# Altium integrated library Linear Technology Comparators.IntLib: 630 symbols (part 15 of 24)
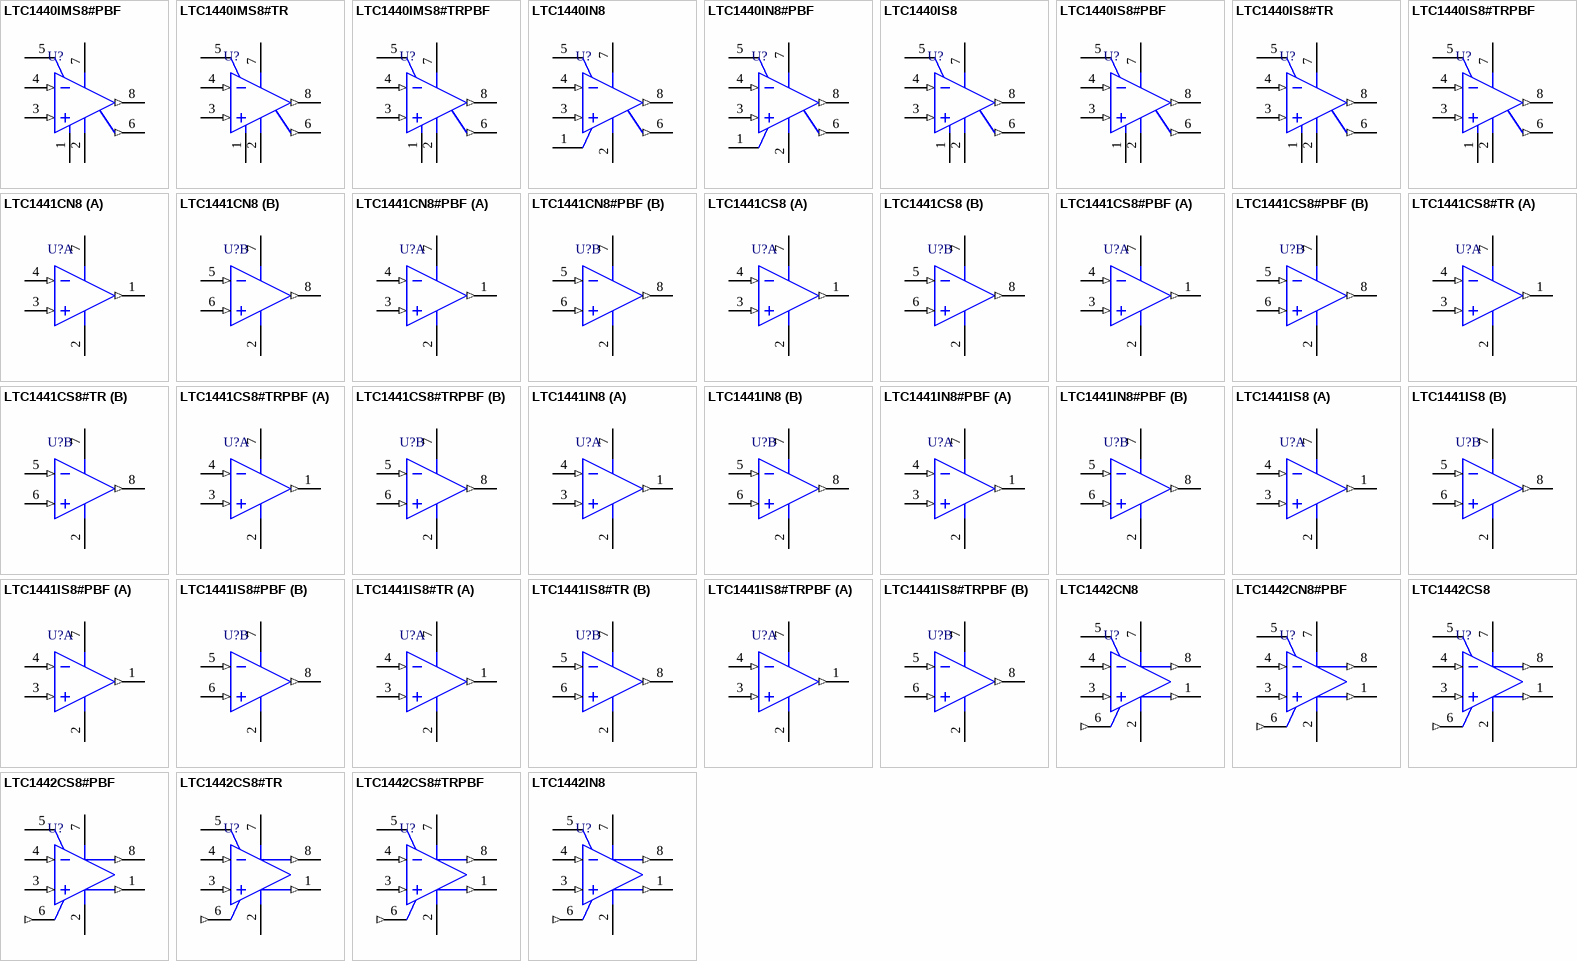
[diagram p38: symbols LTC1440IMS8#PBF to LTC1442IN8]

## LTC1441CS8
designator U?
Ultralow Power Comparator with Reference, 2 Channels, 2 to 11 V, 0 to +70 degC, 8-pin SOP (S8); Generic Part Number: LTC1441; Manufacturer: Linear Technology; PartNumber: LTC1441CS8; Channels (#): 2; Prop Delay (us): 8; Supply Current (uA) Guaranteed: 5.7; Supply Current (uA) Typical: 3.5; Supply Voltage Range: 2 to 11 V; Vos (mV) Guaranteed: 10; Vos (mV) Typical: 3; Vs Max (V): 11; DatasheetVersion: Rev D; PackageReference: S8; PackageDescription: 8-Pin Plastic Small Outline (Narrow .150 Inch), Body 4.9 x 3.9 mm, Pitch 1.27 mm; Supplier 1: Digi-Key; Supplier Part Number 1: LTC1441CS8-ND; Features: Comparator; RoHS: N; Vs Min (V): 2; Mounting Technology: Surface Mount; ComponentLink1Description: Manufacturer URL; ComponentLink1URL: http://www.linear.com/; ComponentLink2Description: Datasheet; ComponentLink2URL: http://cds.linear.com/docs/en/datasheet/144012fd.pdf; ComponentLink3Description: Package Specification; ComponentLink3URL: http://cds.linear.com/docs/en/packaging/05081610_G_SO8.pdf
footprint LT-S8_N (SOP, 8-Leads, Body 4.9x3.9mm, Pitch 1.27mm, IPC Medium Density)
footprint LT-S8_L (SOP, 8-Leads, Body 4.9x3.9mm, Pitch 1.27mm, IPC High Density)
footprint LT-S8_M (SOP, 8-Leads, Body 4.9x3.9mm, Pitch 1.27mm, IPC Low Density)
pins on every part: 2 V- (power), 7 V+ (power)
part A pins: 1 OUTA (out), 3 INA+ (in), 4 INA- (in)
part B pins: 5 INB- (in), 6 INB+ (in), 8 OUTB (out)

## LTC1441CS8#PBF
designator U?
Ultralow Power Comparator with Reference, 2 Channels, 2 to 11 V, 0 to +70 degC, 8-pin SOP (S8); Generic Part Number: LTC1441; Manufacturer: Linear Technology; PartNumber: LTC1441CS8#PBF; Channels (#): 2; Prop Delay (us): 8; Supply Current (uA) Guaranteed: 5.7; Supply Current (uA) Typical: 3.5; Supply Voltage Range: 2 to 11 V; Vos (mV) Guaranteed: 10; Vos (mV) Typical: 3; Vs Max (V): 11; DatasheetVersion: Rev D; PackageReference: S8; PackageDescription: 8-Pin Plastic Small Outline (Narrow .150 Inch), Body 4.9 x 3.9 mm, Pitch 1.27 mm; Supplier 1: Digi-Key; Supplier Part Number 1: LTC1441CS8#PBF-ND; Supplier 2: Newark; Supplier Part Number 2: 56M1207; Features: Comparator; RoHS: Y; Vs Min (V): 2; Mounting Technology: Surface Mount; ComponentLink1Description: Manufacturer URL; ComponentLink1URL: http://www.linear.com/; ComponentLink2Description: Datasheet; ComponentLink2URL: http://cds.linear.com/docs/en/datasheet/144012fd.pdf; ComponentLink3Description: Package Specification; ComponentLink3URL: http://cds.linear.com/docs/en/packaging/05081610_G_SO8.pdf
footprint LT-S8_N (SOP, 8-Leads, Body 4.9x3.9mm, Pitch 1.27mm, IPC Medium Density)
footprint LT-S8_L (SOP, 8-Leads, Body 4.9x3.9mm, Pitch 1.27mm, IPC High Density)
footprint LT-S8_M (SOP, 8-Leads, Body 4.9x3.9mm, Pitch 1.27mm, IPC Low Density)
pins on every part: 2 V- (power), 7 V+ (power)
part A pins: 1 OUTA (out), 3 INA+ (in), 4 INA- (in)
part B pins: 5 INB- (in), 6 INB+ (in), 8 OUTB (out)

## LTC1441CS8#TR
designator U?
Ultralow Power Comparator with Reference, 2 Channels, 2 to 11 V, 0 to +70 degC, 8-pin SOP (S8), Tape and Reel; Generic Part Number: LTC1441; Manufacturer: Linear Technology; PartNumber: LTC1441CS8#TR; Channels (#): 2; Prop Delay (us): 8; Supply Current (uA) Guaranteed: 5.7; Supply Current (uA) Typical: 3.5; Supply Voltage Range: 2 to 11 V; Vos (mV) Guaranteed: 10; Vos (mV) Typical: 3; Vs Max (V): 11; DatasheetVersion: Rev D; PackageReference: S8; PackageDescription: 8-Pin Plastic Small Outline (Narrow .150 Inch), Body 4.9 x 3.9 mm, Pitch 1.27 mm; Supplier 1: Digi-Key; Supplier Part Number 1: LTC1441CS8#TR-ND; Features: Comparator; RoHS: N; Vs Min (V): 2; Mounting Technology: Surface Mount; ComponentLink1Description: Manufacturer URL; ComponentLink1URL: http://www.linear.com/; ComponentLink2Description: Datasheet; ComponentLink2URL: http://cds.linear.com/docs/en/datasheet/144012fd.pdf; ComponentLink3Description: Package Specification; ComponentLink3URL: http://cds.linear.com/docs/en/packaging/05081610_G_SO8.pdf
footprint LT-S8_N (SOP, 8-Leads, Body 4.9x3.9mm, Pitch 1.27mm, IPC Medium Density)
footprint LT-S8_L (SOP, 8-Leads, Body 4.9x3.9mm, Pitch 1.27mm, IPC High Density)
footprint LT-S8_M (SOP, 8-Leads, Body 4.9x3.9mm, Pitch 1.27mm, IPC Low Density)
pins on every part: 2 V- (power), 7 V+ (power)
part A pins: 1 OUTA (out), 3 INA+ (in), 4 INA- (in)
part B pins: 5 INB- (in), 6 INB+ (in), 8 OUTB (out)

## LTC1441CS8#TRPBF
designator U?
Ultralow Power Comparator with Reference, 2 Channels, 2 to 11 V, 0 to +70 degC, 8-pin SOP (S8), Tape and Reel; Generic Part Number: LTC1441; Manufacturer: Linear Technology; PartNumber: LTC1441CS8#TRPBF; Channels (#): 2; Prop Delay (us): 8; Supply Current (uA) Guaranteed: 5.7; Supply Current (uA) Typical: 3.5; Supply Voltage Range: 2 to 11 V; Vos (mV) Guaranteed: 10; Vos (mV) Typical: 3; Vs Max (V): 11; DatasheetVersion: Rev D; PackageReference: S8; PackageDescription: 8-Pin Plastic Small Outline (Narrow .150 Inch), Body 4.9 x 3.9 mm, Pitch 1.27 mm; Supplier 1: Digi-Key; Supplier Part Number 1: LTC1441CS8#TRPBF-ND; Features: Comparator; RoHS: Y; Vs Min (V): 2; Mounting Technology: Surface Mount; ComponentLink1Description: Manufacturer URL; ComponentLink1URL: http://www.linear.com/; ComponentLink2Description: Datasheet; ComponentLink2URL: http://cds.linear.com/docs/en/datasheet/144012fd.pdf; ComponentLink3Description: Package Specification; ComponentLink3URL: http://cds.linear.com/docs/en/packaging/05081610_G_SO8.pdf
footprint LT-S8_N (SOP, 8-Leads, Body 4.9x3.9mm, Pitch 1.27mm, IPC Medium Density)
footprint LT-S8_L (SOP, 8-Leads, Body 4.9x3.9mm, Pitch 1.27mm, IPC High Density)
footprint LT-S8_M (SOP, 8-Leads, Body 4.9x3.9mm, Pitch 1.27mm, IPC Low Density)
pins on every part: 2 V- (power), 7 V+ (power)
part A pins: 1 OUTA (out), 3 INA+ (in), 4 INA- (in)
part B pins: 5 INB- (in), 6 INB+ (in), 8 OUTB (out)

## LTC1441IN8
designator U?
Ultralow Power Comparator with Reference, 2 Channels, 2 to 11 V, -40 to +85 degC, 8-pin PDIP (N8); Generic Part Number: LTC1441; Manufacturer: Linear Technology; PartNumber: LTC1441IN8; Channels (#): 2; Prop Delay (us): 8; Supply Current (uA) Typical: 5.7; Supply Voltage Range: 2 to 11 V; Vos (mV) Guaranteed: 10; Vos (mV) Typical: 3; Vs Max (V): 11; DatasheetVersion: Rev D; PackageReference: N8; PackageDescription: 8-Pin PDIP, Row Spacing 7.62, Pitch 2.54 mm; Supplier 1: Digi-Key; Supplier Part Number 1: LTC1441IN8-ND; Features: Comparator; RoHS: N; Vs Min (V): 2; Mounting Technology: Through Hole; ComponentLink1Description: Manufacturer URL; ComponentLink1URL: http://www.linear.com/; ComponentLink2Description: Datasheet; ComponentLink2URL: http://cds.linear.com/docs/en/datasheet/144012fd.pdf; ComponentLink3Description: Package Specification; ComponentLink3URL: http://cds.linear.com/docs/en/packaging/05081510_I_N8.pdf
footprint LT-N8 (DIP, 8-Leads, Body 10.16x6.477mm, Pitch 2.54mm)
pins on every part: 2 V- (power), 7 V+ (power)
part A pins: 1 OUTA (out), 3 INA+ (in), 4 INA- (in)
part B pins: 5 INB- (in), 6 INB+ (in), 8 OUTB (out)

## LTC1441IN8#PBF
designator U?
Ultralow Power Comparator with Reference, 2 Channels, 2 to 11 V, -40 to +85 degC, 8-pin PDIP (N8); Generic Part Number: LTC1441; Manufacturer: Linear Technology; PartNumber: LTC1441IN8#PBF; Channels (#): 2; Prop Delay (us): 8; Supply Current (uA) Typical: 5.7; Supply Voltage Range: 2 to 11 V; Vos (mV) Guaranteed: 10; Vos (mV) Typical: 3; Vs Max (V): 11; DatasheetVersion: Rev D; PackageReference: N8; PackageDescription: 8-Pin PDIP, Row Spacing 7.62, Pitch 2.54 mm; Supplier 1: Digi-Key; Supplier Part Number 1: LTC1441IN8#PBF-ND; Features: Comparator; RoHS: Y; Vs Min (V): 2; Mounting Technology: Through Hole; ComponentLink1Description: Manufacturer URL; ComponentLink1URL: http://www.linear.com/; ComponentLink2Description: Datasheet; ComponentLink2URL: http://cds.linear.com/docs/en/datasheet/144012fd.pdf; ComponentLink3Description: Package Specification; ComponentLink3URL: http://cds.linear.com/docs/en/packaging/05081510_I_N8.pdf
footprint LT-N8 (DIP, 8-Leads, Body 10.16x6.477mm, Pitch 2.54mm)
pins on every part: 2 V- (power), 7 V+ (power)
part A pins: 1 OUTA (out), 3 INA+ (in), 4 INA- (in)
part B pins: 5 INB- (in), 6 INB+ (in), 8 OUTB (out)

## LTC1441IS8
designator U?
Ultralow Power Comparator with Reference, 2 Channels, 2 to 11 V, -40 to +85 degC, 8-pin SOP (S8); Generic Part Number: LTC1441; Manufacturer: Linear Technology; PartNumber: LTC1441IS8; Channels (#): 2; Prop Delay (us): 8; Supply Current (uA) Guaranteed: 5.7; Supply Current (uA) Typical: 3.5; Supply Voltage Range: 2 to 11 V; Vos (mV) Guaranteed: 10; Vos (mV) Typical: 3; Vs Max (V): 11; DatasheetVersion: Rev D; PackageReference: S8; PackageDescription: 8-Pin Plastic Small Outline (Narrow .150 Inch), Body 4.9 x 3.9 mm, Pitch 1.27 mm; Supplier 1: Digi-Key; Supplier Part Number 1: LTC1441IS8-ND; Features: Comparator; RoHS: N; Vs Min (V): 2; Mounting Technology: Surface Mount; ComponentLink1Description: Manufacturer URL; ComponentLink1URL: http://www.linear.com/; ComponentLink2Description: Datasheet; ComponentLink2URL: http://cds.linear.com/docs/en/datasheet/144012fd.pdf; ComponentLink3Description: Package Specification; ComponentLink3URL: http://cds.linear.com/docs/en/packaging/05081610_G_SO8.pdf
footprint LT-S8_N (SOP, 8-Leads, Body 4.9x3.9mm, Pitch 1.27mm, IPC Medium Density)
footprint LT-S8_L (SOP, 8-Leads, Body 4.9x3.9mm, Pitch 1.27mm, IPC High Density)
footprint LT-S8_M (SOP, 8-Leads, Body 4.9x3.9mm, Pitch 1.27mm, IPC Low Density)
pins on every part: 2 V- (power), 7 V+ (power)
part A pins: 1 OUTA (out), 3 INA+ (in), 4 INA- (in)
part B pins: 5 INB- (in), 6 INB+ (in), 8 OUTB (out)

## LTC1441IS8#PBF
designator U?
Ultralow Power Comparator with Reference, 2 Channels, 2 to 11 V, -40 to +85 degC, 8-pin SOP (S8); Generic Part Number: LTC1441; Manufacturer: Linear Technology; PartNumber: LTC1441IS8#PBF; Channels (#): 2; Prop Delay (us): 8; Supply Current (uA) Guaranteed: 5.7; Supply Current (uA) Typical: 3.5; Supply Voltage Range: 2 to 11 V; Vos (mV) Guaranteed: 10; Vos (mV) Typical: 3; Vs Max (V): 11; DatasheetVersion: Rev D; PackageReference: S8; PackageDescription: 8-Pin Plastic Small Outline (Narrow .150 Inch), Body 4.9 x 3.9 mm, Pitch 1.27 mm; Supplier 1: Digi-Key; Supplier Part Number 1: LTC1441IS8#PBF-ND; Features: Comparator; RoHS: Y; Vs Min (V): 2; Mounting Technology: Surface Mount; ComponentLink1Description: Manufacturer URL; ComponentLink1URL: http://www.linear.com/; ComponentLink2Description: Datasheet; ComponentLink2URL: http://cds.linear.com/docs/en/datasheet/144012fd.pdf; ComponentLink3Description: Package Specification; ComponentLink3URL: http://cds.linear.com/docs/en/packaging/05081610_G_SO8.pdf
footprint LT-S8_N (SOP, 8-Leads, Body 4.9x3.9mm, Pitch 1.27mm, IPC Medium Density)
footprint LT-S8_L (SOP, 8-Leads, Body 4.9x3.9mm, Pitch 1.27mm, IPC High Density)
footprint LT-S8_M (SOP, 8-Leads, Body 4.9x3.9mm, Pitch 1.27mm, IPC Low Density)
pins on every part: 2 V- (power), 7 V+ (power)
part A pins: 1 OUTA (out), 3 INA+ (in), 4 INA- (in)
part B pins: 5 INB- (in), 6 INB+ (in), 8 OUTB (out)

## LTC1441IS8#TR
designator U?
Ultralow Power Comparator with Reference, 2 Channels, 2 to 11 V, -40 to +85 degC, 8-pin SOP (S8), Tape and Reel; Generic Part Number: LTC1441; Manufacturer: Linear Technology; PartNumber: LTC1441IS8#TR; Channels (#): 2; Prop Delay (us): 8; Supply Current (uA) Guaranteed: 5.7; Supply Current (uA) Typical: 3.5; Supply Voltage Range: 2 to 11 V; Vos (mV) Guaranteed: 10; Vos (mV) Typical: 3; Vs Max (V): 11; DatasheetVersion: Rev D; PackageReference: S8; PackageDescription: 8-Pin Plastic Small Outline (Narrow .150 Inch), Body 4.9 x 3.9 mm, Pitch 1.27 mm; Supplier 1: Digi-Key; Supplier Part Number 1: LTC1441IS8#TR-ND; Features: Comparator; RoHS: N; Vs Min (V): 2; Mounting Technology: Surface Mount; ComponentLink1Description: Manufacturer URL; ComponentLink1URL: http://www.linear.com/; ComponentLink2Description: Datasheet; ComponentLink2URL: http://cds.linear.com/docs/en/datasheet/144012fd.pdf; ComponentLink3Description: Package Specification; ComponentLink3URL: http://cds.linear.com/docs/en/packaging/05081610_G_SO8.pdf
footprint LT-S8_N (SOP, 8-Leads, Body 4.9x3.9mm, Pitch 1.27mm, IPC Medium Density)
footprint LT-S8_L (SOP, 8-Leads, Body 4.9x3.9mm, Pitch 1.27mm, IPC High Density)
footprint LT-S8_M (SOP, 8-Leads, Body 4.9x3.9mm, Pitch 1.27mm, IPC Low Density)
pins on every part: 2 V- (power), 7 V+ (power)
part A pins: 1 OUTA (out), 3 INA+ (in), 4 INA- (in)
part B pins: 5 INB- (in), 6 INB+ (in), 8 OUTB (out)

## LTC1441IS8#TRPBF
designator U?
Ultralow Power Comparator with Reference, 2 Channels, 2 to 11 V, -40 to +85 degC, 8- pin SOP (S8), Tape and Reel; Generic Part Number: LTC1441; Manufacturer: Linear Technology; PartNumber: LTC1441IS8#TRPBF; Channels (#): 2; Prop Delay (us): 8; Supply Current (uA) Typical: 5.7; Supply Voltage Range: 2 to 11 V; Vos (mV) Guaranteed: 10; Vos (mV) Typical: 3; Vs Max (V): 11; DatasheetVersion: Rev D; PackageReference: S8; PackageDescription: 8-Pin Plastic Small Outline (Narrow .150 Inch), Body 4.9 x 3.9 mm, Pitch 1.27 mm; Supplier 1: Digi-Key; Supplier Part Number 1: LTC1441IS8#TRPBF-ND; Features: Comparator; RoHS: Y; Vs Min (V): 2; Mounting Technology: Surface Mount; ComponentLink1Description: Manufacturer URL; ComponentLink1URL: http://www.linear.com/; ComponentLink2Description: Datasheet; ComponentLink2URL: http://cds.linear.com/docs/en/datasheet/144012fd.pdf; ComponentLink3Description: Package Specification; ComponentLink3URL: http://cds.linear.com/docs/en/packaging/05081610_G_SO8.pdf
footprint LT-S8_N (SOP, 8-Leads, Body 4.9x3.9mm, Pitch 1.27mm, IPC Medium Density)
footprint LT-S8_L (SOP, 8-Leads, Body 4.9x3.9mm, Pitch 1.27mm, IPC High Density)
footprint LT-S8_M (SOP, 8-Leads, Body 4.9x3.9mm, Pitch 1.27mm, IPC Low Density)
pins on every part: 2 V- (power), 7 V+ (power)
part A pins: 1 OUTA (out), 3 INA+ (in), 4 INA- (in)
part B pins: 5 INB- (in), 6 INB+ (in), 8 OUTB (out)

## LTC1442CN8
designator U?
Ultralow Power Comparator with Reference, 2 Channels, 2 to 11 V, 0 to +70 degC, 8-pin PDIP (N8); Generic Part Number: LTC1442; Manufacturer: Linear Technology; PartNumber: LTC1442CN8; Channels (#): 2; Prop Delay (us): 8; Supply Current (uA) Guaranteed: 5.7; Supply Current (uA) Typical: 3.5; Supply Voltage Range: 2 to 11 V; Vos (mV) Guaranteed: 10; Vos (mV) Typical: 3; Vs Max (V): 11; DatasheetVersion: Rev D; PackageReference: N8; PackageDescription: 8-Pin PDIP, Row Spacing 7.62, Pitch 2.54 mm; Supplier 1: Digi-Key; Supplier Part Number 1: LTC1442CN8-ND; Features: Reference, Comparator; RoHS: N; Vs Min (V): 2; Mounting Technology: Through Hole; ComponentLink1Description: Manufacturer URL; ComponentLink1URL: http://www.linear.com/; ComponentLink2Description: Datasheet; ComponentLink2URL: http://cds.linear.com/docs/en/datasheet/144012fd.pdf; ComponentLink3Description: Package Specification; ComponentLink3URL: http://cds.linear.com/docs/en/packaging/05081510_I_N8.pdf
footprint LT-N8 (DIP, 8-Leads, Body 10.16x6.477mm, Pitch 2.54mm)
pins: 1 OUTA (out), 2 V- (power), 3 INA+ (in), 4 INB- (in), 5 HYST, 6 REF (out), 7 V+ (power), 8 OUTB (out)

## LTC1442CN8#PBF
designator U?
Ultralow Power Comparator with Reference, 2 Channels, 2 to 11 V, 0 to +70 degC, 8-pin PDIP (N8); Generic Part Number: LTC1442; Manufacturer: Linear Technology; PartNumber: LTC1442CN8#PBF; Channels (#): 2; Prop Delay (us): 8; Supply Current (uA) Guaranteed: 5.7; Supply Current (uA) Typical: 3.5; Supply Voltage Range: 2 to 11 V; Vos (mV) Guaranteed: 10; Vos (mV) Typical: 3; Vs Max (V): 11; DatasheetVersion: Rev D; PackageReference: N8; PackageDescription: 8-Pin PDIP, Row Spacing 7.62, Pitch 2.54 mm; Supplier 1: Digi-Key; Supplier Part Number 1: LTC1442CN8#PBF-ND; Features: Reference, Comparator; RoHS: Y; Vs Min (V): 2; Mounting Technology: Through Hole; ComponentLink1Description: Manufacturer URL; ComponentLink1URL: http://www.linear.com/; ComponentLink2Description: Datasheet; ComponentLink2URL: http://cds.linear.com/docs/en/datasheet/144012fd.pdf; ComponentLink3Description: Package Specification; ComponentLink3URL: http://cds.linear.com/docs/en/packaging/05081510_I_N8.pdf
footprint LT-N8 (DIP, 8-Leads, Body 10.16x6.477mm, Pitch 2.54mm)
pins: 1 OUTA (out), 2 V- (power), 3 INA+ (in), 4 INB- (in), 5 HYST, 6 REF (out), 7 V+ (power), 8 OUTB (out)

## LTC1442CS8
designator U?
Ultralow Power Comparator with Reference, 2 Channels, 2 to 11 V, 0 to +70 degC, 8-pin SOP (S8); Generic Part Number: LTC1442; Manufacturer: Linear Technology; PartNumber: LTC1442CS8; Channels (#): 2; Prop Delay (us): 8; Supply Current (uA) Guaranteed: 5.7; Supply Current (uA) Typical: 3.5; Supply Voltage Range: 2 to 11 V; Vos (mV) Guaranteed: 10; Vos (mV) Typical: 3; Vs Max (V): 11; DatasheetVersion: Rev D; PackageReference: S8; PackageDescription: 8-Pin Plastic Small Outline (Narrow .150 Inch), Body 4.9 x 3.9 mm, Pitch 1.27 mm; Supplier 1: Digi-Key; Supplier Part Number 1: LTC1442CS8-ND; Supplier 2: Newark; Supplier Part Number 2: 56M1218; Features: Reference, Comparator; RoHS: N; Vs Min (V): 2; Mounting Technology: Surface Mount; ComponentLink1Description: Manufacturer URL; ComponentLink1URL: http://www.linear.com/; ComponentLink2Description: Datasheet; ComponentLink2URL: http://cds.linear.com/docs/en/datasheet/144012fd.pdf; ComponentLink3Description: Package Specification; ComponentLink3URL: http://cds.linear.com/docs/en/packaging/05081610_G_SO8.pdf
footprint LT-S8_N (SOP, 8-Leads, Body 4.9x3.9mm, Pitch 1.27mm, IPC Medium Density)
footprint LT-S8_L (SOP, 8-Leads, Body 4.9x3.9mm, Pitch 1.27mm, IPC High Density)
footprint LT-S8_M (SOP, 8-Leads, Body 4.9x3.9mm, Pitch 1.27mm, IPC Low Density)
pins: 1 OUTA (out), 2 V- (power), 3 INA+ (in), 4 INB- (in), 5 HYST, 6 REF (out), 7 V+ (power), 8 OUTB (out)

## LTC1442CS8#PBF
designator U?
Ultralow Power Comparator with Reference, 2 Channels, 2 to 11 V, 0 to +70 degC, 8-pin SOP (S8); Generic Part Number: LTC1442; Manufacturer: Linear Technology; PartNumber: LTC1442CS8#PBF; Channels (#): 2; Prop Delay (us): 8; Supply Current (uA) Guaranteed: 5.7; Supply Current (uA) Typical: 3.5; Supply Voltage Range: 2 to 11 V; Vos (mV) Guaranteed: 10; Vos (mV) Typical: 3; Vs Max (V): 11; DatasheetVersion: Rev D; PackageReference: S8; PackageDescription: 8-Pin Plastic Small Outline (Narrow .150 Inch), Body 4.9 x 3.9 mm, Pitch 1.27 mm; Supplier 1: Digi-Key; Supplier Part Number 1: LTC1442CS8#PBF-ND; Supplier 2: Farnell; Supplier Part Number 2: 1663624; Supplier 3: Newark; Supplier Part Number 3: 56M1219; Features: Reference, Comparator; RoHS: Y; Vs Min (V): 2; Mounting Technology: Surface Mount; ComponentLink1Description: Manufacturer URL; ComponentLink1URL: http://www.linear.com/; ComponentLink2Description: Datasheet; ComponentLink2URL: http://cds.linear.com/docs/en/datasheet/144012fd.pdf; ComponentLink3Description: Package Specification; ComponentLink3URL: http://cds.linear.com/docs/en/packaging/05081610_G_SO8.pdf
footprint LT-S8_N (SOP, 8-Leads, Body 4.9x3.9mm, Pitch 1.27mm, IPC Medium Density)
footprint LT-S8_L (SOP, 8-Leads, Body 4.9x3.9mm, Pitch 1.27mm, IPC High Density)
footprint LT-S8_M (SOP, 8-Leads, Body 4.9x3.9mm, Pitch 1.27mm, IPC Low Density)
pins: 1 OUTA (out), 2 V- (power), 3 INA+ (in), 4 INB- (in), 5 HYST, 6 REF (out), 7 V+ (power), 8 OUTB (out)

## LTC1442CS8#TR
designator U?
Ultralow Power Comparator with Reference, 2 Channels, 2 to 11 V, 0 to +70 degC, 8-pin SOP (S8), Tape and Reel; Generic Part Number: LTC1442; Manufacturer: Linear Technology; PartNumber: LTC1442CS8#TR; Channels (#): 2; Prop Delay (us): 8; Supply Current (uA) Guaranteed: 5.7; Supply Current (uA) Typical: 3.5; Supply Voltage Range: 2 to 11 V; Vos (mV) Guaranteed: 10; Vos (mV) Typical: 3; Vs Max (V): 11; DatasheetVersion: Rev D; PackageReference: S8; PackageDescription: 8-Pin Plastic Small Outline (Narrow .150 Inch), Body 4.9 x 3.9 mm, Pitch 1.27 mm; Supplier 1: Digi-Key; Supplier Part Number 1: LTC1442CS8#TR-ND; Features: Reference, Comparator; RoHS: N; Vs Min (V): 2; Mounting Technology: Surface Mount; ComponentLink1Description: Manufacturer URL; ComponentLink1URL: http://www.linear.com/; ComponentLink2Description: Datasheet; ComponentLink2URL: http://cds.linear.com/docs/en/datasheet/144012fd.pdf; ComponentLink3Description: Package Specification; ComponentLink3URL: http://cds.linear.com/docs/en/packaging/05081610_G_SO8.pdf
footprint LT-S8_N (SOP, 8-Leads, Body 4.9x3.9mm, Pitch 1.27mm, IPC Medium Density)
footprint LT-S8_L (SOP, 8-Leads, Body 4.9x3.9mm, Pitch 1.27mm, IPC High Density)
footprint LT-S8_M (SOP, 8-Leads, Body 4.9x3.9mm, Pitch 1.27mm, IPC Low Density)
pins: 1 OUTA (out), 2 V- (power), 3 INA+ (in), 4 INB- (in), 5 HYST, 6 REF (out), 7 V+ (power), 8 OUTB (out)

## LTC1442CS8#TRPBF
designator U?
Ultralow Power Comparator with Reference, 2 Channels, 2 to 11 V, 0 to +70 degC, 8-pin SOP (S8), Tape and Reel; Generic Part Number: LTC1442; Manufacturer: Linear Technology; PartNumber: LTC1442CS8#TRPBF; Channels (#): 2; Prop Delay (us): 8; Supply Current (uA) Guaranteed: 5.7; Supply Current (uA) Typical: 3.5; Supply Voltage Range: 2 to 11 V; Vos (mV) Guaranteed: 10; Vos (mV) Typical: 3; Vs Max (V): 11; DatasheetVersion: Rev D; PackageReference: S8; PackageDescription: 8-Pin Plastic Small Outline (Narrow .150 Inch), Body 4.9 x 3.9 mm, Pitch 1.27 mm; Supplier 1: Digi-Key; Supplier Part Number 1: LTC1442CS8#TRPBF-ND; Features: Reference, Comparator; RoHS: Y; Vs Min (V): 2; Mounting Technology: Surface Mount; ComponentLink1Description: Manufacturer URL; ComponentLink1URL: http://www.linear.com/; ComponentLink2Description: Datasheet; ComponentLink2URL: http://cds.linear.com/docs/en/datasheet/144012fd.pdf; ComponentLink3Description: Package Specification; ComponentLink3URL: http://cds.linear.com/docs/en/packaging/05081610_G_SO8.pdf
footprint LT-S8_N (SOP, 8-Leads, Body 4.9x3.9mm, Pitch 1.27mm, IPC Medium Density)
footprint LT-S8_L (SOP, 8-Leads, Body 4.9x3.9mm, Pitch 1.27mm, IPC High Density)
footprint LT-S8_M (SOP, 8-Leads, Body 4.9x3.9mm, Pitch 1.27mm, IPC Low Density)
pins: 1 OUTA (out), 2 V- (power), 3 INA+ (in), 4 INB- (in), 5 HYST, 6 REF (out), 7 V+ (power), 8 OUTB (out)

## LTC1442IN8
designator U?
Ultralow Power Comparator with Reference, 2 Channels, 2 to 11 V, -40 to +85 degC, 8-pin PDIP (N8); Generic Part Number: LTC1442; Manufacturer: Linear Technology; PartNumber: LTC1442IN8; Channels (#): 2; Prop Delay (us): 8; Supply Current (uA) Guaranteed: 5.7; Supply Current (uA) Typical: 3.5; Supply Voltage Range: 2 to 11 V; Vos (mV) Guaranteed: 10; Vos (mV) Typical: 3; Vs Max (V): 11; DatasheetVersion: Rev D; PackageReference: N8; PackageDescription: 8-Pin PDIP, Row Spacing 7.62, Pitch 2.54 mm; Supplier 1: Digi-Key; Supplier Part Number 1: LTC1442IN8-ND; Features: Reference, Comparator; RoHS: N; Vs Min (V): 2; Mounting Technology: Through Hole; ComponentLink1Description: Manufacturer URL; ComponentLink1URL: http://www.linear.com/; ComponentLink2Description: Datasheet; ComponentLink2URL: http://cds.linear.com/docs/en/datasheet/144012fd.pdf; ComponentLink3Description: Package Specification; ComponentLink3URL: http://cds.linear.com/docs/en/packaging/05081510_I_N8.pdf
footprint LT-N8 (DIP, 8-Leads, Body 10.16x6.477mm, Pitch 2.54mm)
pins: 1 OUTA (out), 2 V- (power), 3 INA+ (in), 4 INB- (in), 5 HYST, 6 REF (out), 7 V+ (power), 8 OUTB (out)

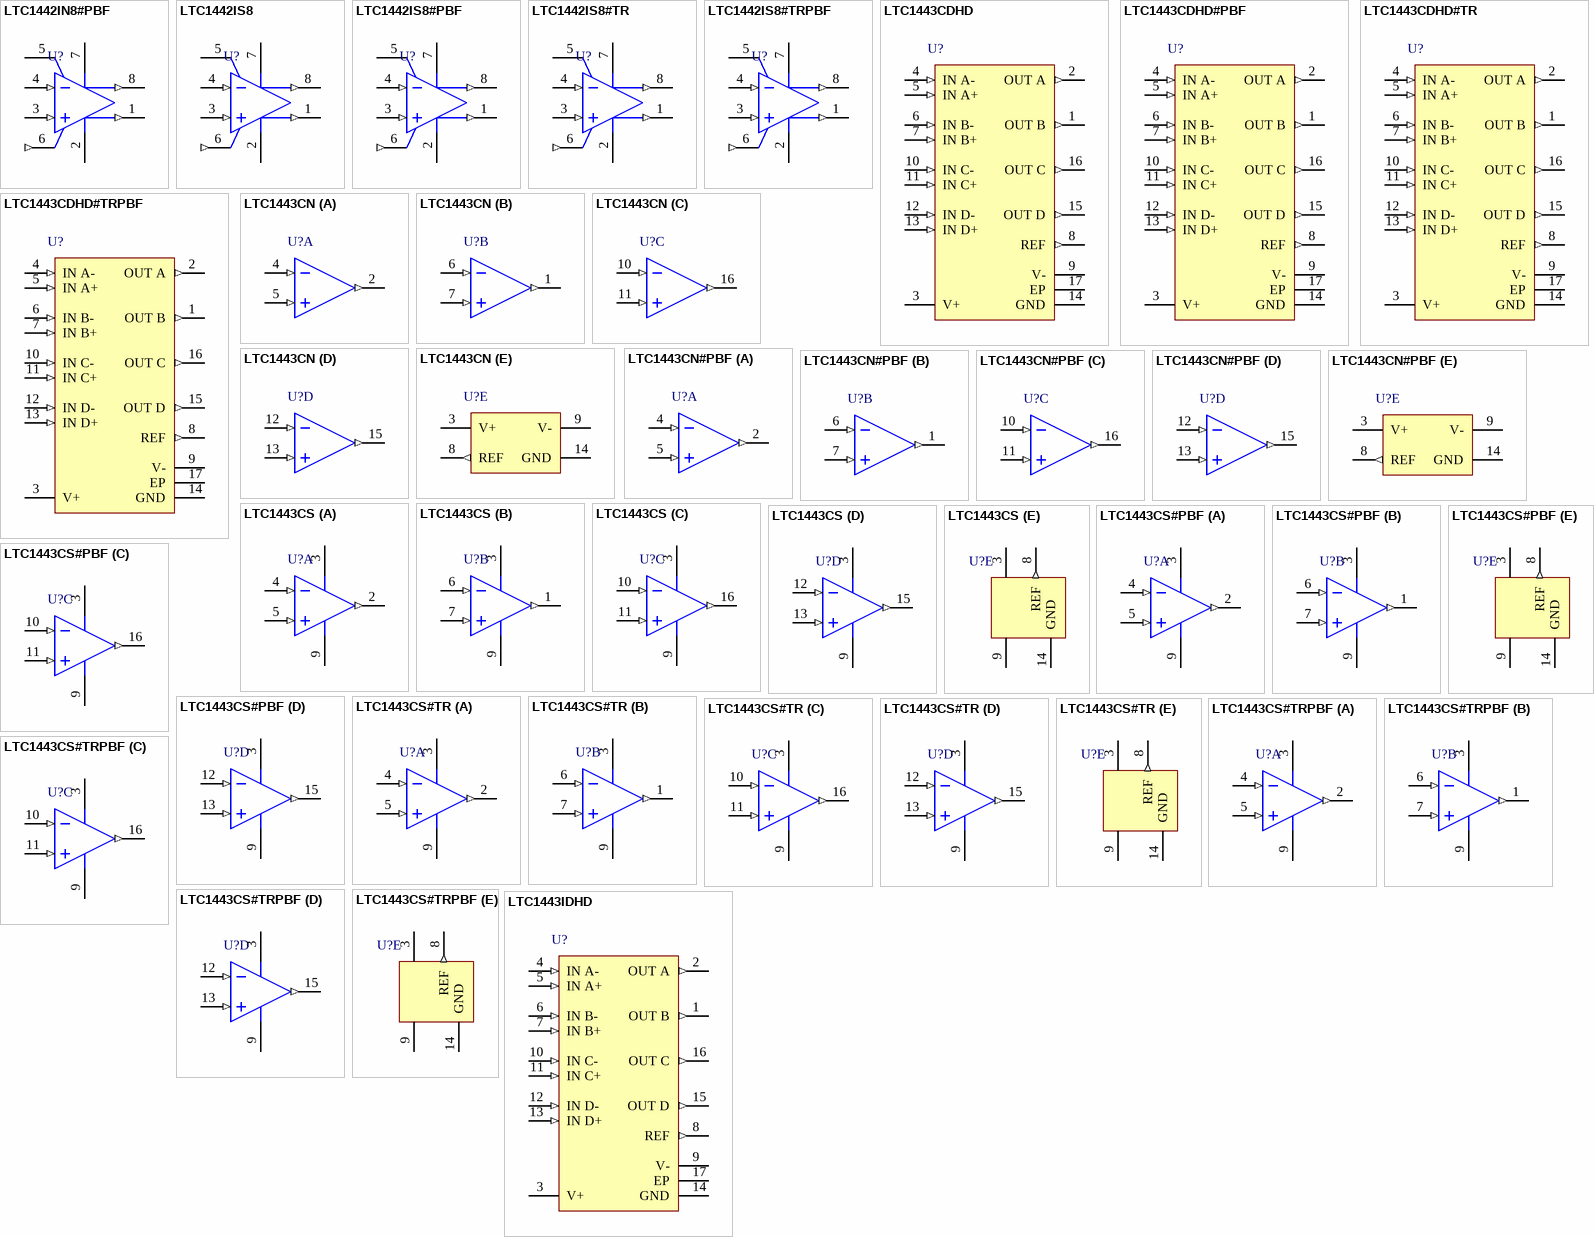
[diagram p14: symbols LTC1442IN8#PBF to LTC1443IDHD]

## LTC1442IN8#PBF
designator U?
Ultralow Power Comparator with Reference, 2 Channels, 2 to 11 V, -40 to +85 degC, 8-pin PDIP (N8); Generic Part Number: LTC1442; Manufacturer: Linear Technology; PartNumber: LTC1442IN8#PBF; Channels (#): 2; Prop Delay (us): 8; Supply Current (uA) Guaranteed: 5.7; Supply Current (uA) Typical: 3.5; Supply Voltage Range: 2 to 11 V; Vos (mV) Guaranteed: 10; Vos (mV) Typical: 3; Vs Max (V): 11; DatasheetVersion: Rev D; PackageReference: N8; PackageDescription: 8-Pin PDIP, Row Spacing 7.62, Pitch 2.54 mm; Supplier 1: Digi-Key; Supplier Part Number 1: LTC1442IN8#PBF-ND; Features: Reference, Comparator; RoHS: Y; Vs Min (V): 2; Mounting Technology: Through Hole; ComponentLink1Description: Manufacturer URL; ComponentLink1URL: http://www.linear.com/; ComponentLink2Description: Datasheet; ComponentLink2URL: http://cds.linear.com/docs/en/datasheet/144012fd.pdf; ComponentLink3Description: Package Specification; ComponentLink3URL: http://cds.linear.com/docs/en/packaging/05081510_I_N8.pdf
footprint LT-N8 (DIP, 8-Leads, Body 10.16x6.477mm, Pitch 2.54mm)
pins: 1 OUTA (out), 2 V- (power), 3 INA+ (in), 4 INB- (in), 5 HYST, 6 REF (out), 7 V+ (power), 8 OUTB (out)

## LTC1442IS8
designator U?
Ultralow Power Comparator with Reference, 2 Channels, 2 to 11 V, -40 to +85 degC, 8-pin SOP (S8); Generic Part Number: LTC1442; Manufacturer: Linear Technology; PartNumber: LTC1442IS8; Channels (#): 2; Prop Delay (us): 8; Supply Current (uA) Guaranteed: 5.7; Supply Current (uA) Typical: 3.5; Supply Voltage Range: 2V to 11V; Vos (mV) Guaranteed: 10; Vos (mV) Typical: 3; Vs Max (V): 11; DatasheetVersion: Rev D; PackageReference: S8; PackageDescription: 8-Pin Plastic Small Outline (Narrow .150 Inch), Body 4.9 x 3.9 mm, Pitch 1.27 mm; Supplier 1: Digi-Key; Supplier Part Number 1: LTC1442IS8-ND; Features: Reference, Comparator; RoHS: N; Vs Min (V): 2; Mounting Technology: Surface Mount; ComponentLink1Description: Manufacturer URL; ComponentLink1URL: http://www.linear.com/; ComponentLink2Description: Datasheet; ComponentLink2URL: http://cds.linear.com/docs/en/datasheet/144012fd.pdf; ComponentLink3Description: Package Specification; ComponentLink3URL: http://cds.linear.com/docs/en/packaging/05081610_G_SO8.pdf
footprint LT-S8_N (SOP, 8-Leads, Body 4.9x3.9mm, Pitch 1.27mm, IPC Medium Density)
footprint LT-S8_L (SOP, 8-Leads, Body 4.9x3.9mm, Pitch 1.27mm, IPC High Density)
footprint LT-S8_M (SOP, 8-Leads, Body 4.9x3.9mm, Pitch 1.27mm, IPC Low Density)
pins: 1 OUTA (out), 2 V- (power), 3 INA+ (in), 4 INB- (in), 5 HYST, 6 REF (out), 7 V+ (power), 8 OUTB (out)

## LTC1442IS8#PBF
designator U?
Ultralow Power Comparator with Reference, 2 Channels, 2 to 11 V, -40 to +85 degC, 8-pin SOP (S8); Generic Part Number: LTC1442; Manufacturer: Linear Technology; PartNumber: LTC1442IS8#PBF; Channels (#): 2; Prop Delay (us): 8; Supply Current (uA) Guaranteed: 5.7; Supply Current (uA) Typical: 3.5; Supply Voltage Range: 2V to 11V; Vos (mV) Guaranteed: 10; Vos (mV) Typical: 3; Vs Max (V): 11; DatasheetVersion: Rev D; PackageReference: S8; PackageDescription: 8-Pin Plastic Small Outline (Narrow .150 Inch), Body 4.9 x 3.9 mm, Pitch 1.27 mm; Supplier 1: Digi-Key; Supplier Part Number 1: LTC1442IS8#PBF-ND; Supplier 2: Farnell; Supplier Part Number 2: 1663625; Supplier 3: Newark; Supplier Part Number 3: 56M1225; Features: Reference, Comparator; RoHS: Y; Vs Min (V): 2; Mounting Technology: Surface Mount; ComponentLink1Description: Manufacturer URL; ComponentLink1URL: http://www.linear.com/; ComponentLink2Description: Datasheet; ComponentLink2URL: http://cds.linear.com/docs/en/datasheet/144012fd.pdf; ComponentLink3Description: Package Specification; ComponentLink3URL: http://cds.linear.com/docs/en/packaging/05081610_G_SO8.pdf
footprint LT-S8_N (SOP, 8-Leads, Body 4.9x3.9mm, Pitch 1.27mm, IPC Medium Density)
footprint LT-S8_L (SOP, 8-Leads, Body 4.9x3.9mm, Pitch 1.27mm, IPC High Density)
footprint LT-S8_M (SOP, 8-Leads, Body 4.9x3.9mm, Pitch 1.27mm, IPC Low Density)
pins: 1 OUTA (out), 2 V- (power), 3 INA+ (in), 4 INB- (in), 5 HYST, 6 REF (out), 7 V+ (power), 8 OUTB (out)

## LTC1442IS8#TR
designator U?
Ultralow Power Comparator with Reference, 2 Channels, 2 to 11 V, -40 to +85 degC, 8-pin SOP (S8), Reel; Generic Part Number: LTC1442; Manufacturer: Linear Technology; PartNumber: LTC1442IS8#TR; Channels (#): 2; Prop Delay (us): 8; Supply Current (uA) Guaranteed: 5.7; Supply Current (uA) Typical: 3.5; Supply Voltage Range: 2V to 11V; Vos (mV) Guaranteed: 10; Vos (mV) Typical: 3; Vs Max (V): 11; DatasheetVersion: Rev D; PackageReference: S8; PackageDescription: 8-Pin Plastic Small Outline (Narrow .150 Inch), Body 4.9 x 3.9 mm, Pitch 1.27 mm; Supplier 1: Digi-Key; Supplier Part Number 1: LTC1442IS8#TR-ND; Features: Reference, Comparator; RoHS: N; Vs Min (V): 2; Mounting Technology: Surface Mount; ComponentLink1Description: Manufacturer URL; ComponentLink1URL: http://www.linear.com/; ComponentLink2Description: Datasheet; ComponentLink2URL: http://cds.linear.com/docs/en/datasheet/144012fd.pdf; ComponentLink3Description: Package Specification; ComponentLink3URL: http://cds.linear.com/docs/en/packaging/05081610_G_SO8.pdf
footprint LT-S8_N (SOP, 8-Leads, Body 4.9x3.9mm, Pitch 1.27mm, IPC Medium Density)
footprint LT-S8_L (SOP, 8-Leads, Body 4.9x3.9mm, Pitch 1.27mm, IPC High Density)
footprint LT-S8_M (SOP, 8-Leads, Body 4.9x3.9mm, Pitch 1.27mm, IPC Low Density)
pins: 1 OUTA (out), 2 V- (power), 3 INA+ (in), 4 INB- (in), 5 HYST, 6 REF (out), 7 V+ (power), 8 OUTB (out)

## LTC1442IS8#TRPBF
designator U?
Ultralow Power Comparator with Reference, 2 Channels, 2 to 11 V, -40 to +85 degC, 8-pin SOP (S8), Tape and Reel; Generic Part Number: LTC1442; Manufacturer: Linear Technology; PartNumber: LTC1442IS8#TRPBF; Channels (#): 2; Prop Delay (us): 8; Supply Current (uA) Guaranteed: 5.7; Supply Current (uA) Typical: 3.5; Supply Voltage Range: 2 to 11 V; Vos (mV) Guaranteed: 10; Vos (mV) Typical: 3; Vs Max (V): 11; DatasheetVersion: Rev D; PackageReference: S8; PackageDescription: 8-Pin Plastic Small Outline (Narrow .150 Inch), Body 4.9 x 3.9 mm, Pitch 1.27 mm; Supplier 1: Digi-Key; Supplier Part Number 1: LTC1442IS8#TRPBF-ND; Supplier 2: Newark; Supplier Part Number 2: 56M1227; Features: Reference, Comparator; RoHS: Y; Vs Min (V): 2; Mounting Technology: Surface Mount; ComponentLink1Description: Manufacturer URL; ComponentLink1URL: http://www.linear.com/; ComponentLink2Description: Datasheet; ComponentLink2URL: http://cds.linear.com/docs/en/datasheet/144012fd.pdf; ComponentLink3Description: Package Specification; ComponentLink3URL: http://cds.linear.com/docs/en/packaging/05081610_G_SO8.pdf
footprint LT-S8_N (SOP, 8-Leads, Body 4.9x3.9mm, Pitch 1.27mm, IPC Medium Density)
footprint LT-S8_L (SOP, 8-Leads, Body 4.9x3.9mm, Pitch 1.27mm, IPC High Density)
footprint LT-S8_M (SOP, 8-Leads, Body 4.9x3.9mm, Pitch 1.27mm, IPC Low Density)
pins: 1 OUTA (out), 2 V- (power), 3 INA+ (in), 4 INB- (in), 5 HYST, 6 REF (out), 7 V+ (power), 8 OUTB (out)

## LTC1443CDHD
designator U?
Ultralow Power Comparator with Reference, 4 Channels, 2 to 11 V, 0 to +70 degC, 16-pin Plastic DFN (DHD16); Generic Part Number: LTC1443; Manufacturer: Linear Technology; PartNumber: LTC1443CDHD; Channels (#): 4; Supply Current (uA) Guaranteed: 8.5; Supply Current (uA) Typical: 5.5; Supply Voltage Range: 2 to 11 V; Vos (mV) Typical: 3; Vs Max (V): 11; Vs Min (V): 2; DatasheetVersion: Rev E; PackageReference: DHD16; PackageDescription: 16-Pin Plastic DFN, Body 5 × 4 mm, Pitch 0.5 mm; Features: Reference, Comparator; Prop Delay (us): 4; RoHS: N; Mounting Technology: Surface Mount; Code_JEDEC: MO-229; ComponentLink1Description: Manufacturer URL; ComponentLink1URL: http://www.linear.com/; ComponentLink2Description: Datasheet; ComponentLink2URL: http://cds.linear.com/docs/en/datasheet/144345fe.pdf; ComponentLink3Description: Package Specification; ComponentLink3URL: http://cds.linear.com/docs/en/packaging/DFN_16_05-08-1707.pdf
footprint LT-DHD16_V (SON, 16-Leads, Body 5x4mm, Pitch 0.5mm, Thermal Pad 4.34x2.44mm)
pins: 1 OUT B (out) "Comparator B Output. Output can source up to 40mA and sink 5mA.", 2 OUT A (out) "Comparator A Output. Output can source up to 40mA and sink 5mA.", 3 V+ (power) "Positive Supply.", 4 IN A- (in) "Inverting Input of Comparator A. Input common mode range from V- to V+ - 1.3V. Input current typically 10pA at 25degreesC.", 5 IN A+ (in) "Noninverting Input of Comparator A. Input common mode range from V- to V+ - 1.3V. Input current typically 10pA at 25degreesC.", 6 IN B- (in) "Inverting Input of Comparator B. Input common mode range from V- to V+ - 1.3V. Input current typically 10pA at 25degreesC.", 7 IN B+ (in) "Noninverting Input of Comparator B. Input common mode range from V- to V+ - 1.3V. Input current typically 10pA at 25degreesC.", 8 REF (out) "Reference Output. With respect to V-. Can source up to 200uA and sink 15uA at 25degreesC. Drive 0.01uF bypass capacitor without oscillation.", 9 V- (power) "Negative Supply. Connect to ground for single supply operation.", 10 IN C- (in) "Inverting Input of Comparator C. Input common mode range from V- to V+ - 1.3V. Input current typically 10pA at 25degreesC.", 11 IN C+ (in) "Noninverting Input of Comparator C. Input common mode range from V- to V+ - 1.3V. Input current typically 10pA at 25degreesC.", 12 IN D- (in) "Inverting Input of Comparator D. Input common mode range from V- to V+ - 1.3V. Input current typically 10pA at 25degreesC.", 13 IN D+ (in) "Noninverting Input of Comparator D. Input common mode range from V- to V+ - 1.3V. Input current typically 10pA at 25degreesC.", 14 GND (power) "Ground. Connect to V- for single supply operation.", 15 OUT D (out) "Comparator D Output. Output can source up to 40mA and sink 5mA.", 16 OUT C (out) "Comparator C Output. Output can source up to 40mA and sink 5mA.", 17 EP "This pin is internally connected to V-. Connection is optional, but will improve thermal dissipation."

## LTC1443CDHD#PBF
designator U?
Ultralow Power Comparator with Reference, 4 Channels, 2 to 11 V, 0 to +70 degC, 16-pin Plastic DFN (DHD16); Generic Part Number: LTC1443; Manufacturer: Linear Technology; PartNumber: LTC1443CDHD#PBF; Channels (#): 4; Supply Current (uA) Guaranteed: 8.5; Supply Current (uA) Typical: 5.5; Supply Voltage Range: 2 to 11 V; Vos (mV) Typical: 3; Vs Max (V): 11; Vs Min (V): 2; DatasheetVersion: Rev E; PackageReference: DHD16; PackageDescription: 16-Pin Plastic DFN, Body 5 × 4 mm, Pitch 0.5 mm; Supplier 1: Digi-Key; Supplier Part Number 1: LTC1443CDHD#PBF-ND; Features: Reference, Comparator; Prop Delay (us): 4; RoHS: Y; Mounting Technology: Surface Mount; Code_JEDEC: MO-229; ComponentLink1Description: Manufacturer URL; ComponentLink1URL: http://www.linear.com/; ComponentLink2Description: Datasheet; ComponentLink2URL: http://cds.linear.com/docs/en/datasheet/144345fe.pdf; ComponentLink3Description: Package Specification; ComponentLink3URL: http://cds.linear.com/docs/en/packaging/DFN_16_05-08-1707.pdf
footprint LT-DHD16_V (SON, 16-Leads, Body 5x4mm, Pitch 0.5mm, Thermal Pad 4.34x2.44mm)
pins: 1 OUT B (out) "Comparator B Output. Output can source up to 40mA and sink 5mA.", 2 OUT A (out) "Comparator A Output. Output can source up to 40mA and sink 5mA.", 3 V+ (power) "Positive Supply.", 4 IN A- (in) "Inverting Input of Comparator A. Input common mode range from V- to V+ - 1.3V. Input current typically 10pA at 25degreesC.", 5 IN A+ (in) "Noninverting Input of Comparator A. Input common mode range from V- to V+ - 1.3V. Input current typically 10pA at 25degreesC.", 6 IN B- (in) "Inverting Input of Comparator B. Input common mode range from V- to V+ - 1.3V. Input current typically 10pA at 25degreesC.", 7 IN B+ (in) "Noninverting Input of Comparator B. Input common mode range from V- to V+ - 1.3V. Input current typically 10pA at 25degreesC.", 8 REF (out) "Reference Output. With respect to V-. Can source up to 200uA and sink 15uA at 25degreesC. Drive 0.01uF bypass capacitor without oscillation.", 9 V- (power) "Negative Supply. Connect to ground for single supply operation.", 10 IN C- (in) "Inverting Input of Comparator C. Input common mode range from V- to V+ - 1.3V. Input current typically 10pA at 25degreesC.", 11 IN C+ (in) "Noninverting Input of Comparator C. Input common mode range from V- to V+ - 1.3V. Input current typically 10pA at 25degreesC.", 12 IN D- (in) "Inverting Input of Comparator D. Input common mode range from V- to V+ - 1.3V. Input current typically 10pA at 25degreesC.", 13 IN D+ (in) "Noninverting Input of Comparator D. Input common mode range from V- to V+ - 1.3V. Input current typically 10pA at 25degreesC.", 14 GND (power) "Ground. Connect to V- for single supply operation.", 15 OUT D (out) "Comparator D Output. Output can source up to 40mA and sink 5mA.", 16 OUT C (out) "Comparator C Output. Output can source up to 40mA and sink 5mA.", 17 EP "This pin is internally connected to V-. Connection is optional, but will improve thermal dissipation."

## LTC1443CDHD#TR
designator U?
Ultralow Power Comparator with Reference, 4 Channels, 2 to 11 V, 0 to +70 degC, 16-pin Plastic DFN (DHD16), Tape and Reel; Generic Part Number: LTC1443; Manufacturer: Linear Technology; PartNumber: LTC1443CDHD#TR; Channels (#): 4; Supply Current (uA) Guaranteed: 8.5; Supply Current (uA) Typical: 5.5; Supply Voltage Range: 2 to 11 V; Vos (mV) Typical: 3; Vs Max (V): 11; Vs Min (V): 2; DatasheetVersion: Rev E; PackageReference: DHD16; PackageDescription: 16-Pin Plastic DFN, Body 5 × 4 mm, Pitch 0.5 mm; Features: Reference, Comparator; Prop Delay (us): 4; RoHS: N; Mounting Technology: Surface Mount; Code_JEDEC: MO-229; ComponentLink1Description: Manufacturer URL; ComponentLink1URL: http://www.linear.com/; ComponentLink2Description: Datasheet; ComponentLink2URL: http://cds.linear.com/docs/en/datasheet/144345fe.pdf; ComponentLink3Description: Package Specification; ComponentLink3URL: http://cds.linear.com/docs/en/packaging/DFN_16_05-08-1707.pdf
footprint LT-DHD16_V (SON, 16-Leads, Body 5x4mm, Pitch 0.5mm, Thermal Pad 4.34x2.44mm)
pins: 1 OUT B (out) "Comparator B Output. Output can source up to 40mA and sink 5mA.", 2 OUT A (out) "Comparator A Output. Output can source up to 40mA and sink 5mA.", 3 V+ (power) "Positive Supply.", 4 IN A- (in) "Inverting Input of Comparator A. Input common mode range from V- to V+ - 1.3V. Input current typically 10pA at 25degreesC.", 5 IN A+ (in) "Noninverting Input of Comparator A. Input common mode range from V- to V+ - 1.3V. Input current typically 10pA at 25degreesC.", 6 IN B- (in) "Inverting Input of Comparator B. Input common mode range from V- to V+ - 1.3V. Input current typically 10pA at 25degreesC.", 7 IN B+ (in) "Noninverting Input of Comparator B. Input common mode range from V- to V+ - 1.3V. Input current typically 10pA at 25degreesC.", 8 REF (out) "Reference Output. With respect to V-. Can source up to 200uA and sink 15uA at 25degreesC. Drive 0.01uF bypass capacitor without oscillation.", 9 V- (power) "Negative Supply. Connect to ground for single supply operation.", 10 IN C- (in) "Inverting Input of Comparator C. Input common mode range from V- to V+ - 1.3V. Input current typically 10pA at 25degreesC.", 11 IN C+ (in) "Noninverting Input of Comparator C. Input common mode range from V- to V+ - 1.3V. Input current typically 10pA at 25degreesC.", 12 IN D- (in) "Inverting Input of Comparator D. Input common mode range from V- to V+ - 1.3V. Input current typically 10pA at 25degreesC.", 13 IN D+ (in) "Noninverting Input of Comparator D. Input common mode range from V- to V+ - 1.3V. Input current typically 10pA at 25degreesC.", 14 GND (power) "Ground. Connect to V- for single supply operation.", 15 OUT D (out) "Comparator D Output. Output can source up to 40mA and sink 5mA.", 16 OUT C (out) "Comparator C Output. Output can source up to 40mA and sink 5mA.", 17 EP "This pin is internally connected to V-. Connection is optional, but will improve thermal dissipation."

## LTC1443CDHD#TRPBF
designator U?
Ultralow Power Comparator with Reference, 4 Channels, 2 to 11 V, 0 to +70 degC, 16-pin Plastic DFN (DHD16), Tape and Reel; Generic Part Number: LTC1443; Manufacturer: Linear Technology; PartNumber: LTC1443CDHD#TRPBF; Channels (#): 4; Supply Current (uA) Guaranteed: 8.5; Supply Current (uA) Typical: 5.5; Supply Voltage Range: 2 to 11 V; Vos (mV) Typical: 3; Vs Max (V): 11; Vs Min (V): 2; DatasheetVersion: Rev E; PackageReference: DHD16; PackageDescription: 16-Pin Plastic DFN, Body 5 × 4 mm, Pitch 0.5 mm; Supplier 1: Digi-Key; Supplier Part Number 1: LTC1443CDHD#TRPBF-ND; Features: Reference, Comparator; Prop Delay (us): 4; RoHS: Y; Mounting Technology: Surface Mount; Code_JEDEC: MO-229; ComponentLink1Description: Manufacturer URL; ComponentLink1URL: http://www.linear.com/; ComponentLink2Description: Datasheet; ComponentLink2URL: http://cds.linear.com/docs/en/datasheet/144345fe.pdf; ComponentLink3Description: Package Specification; ComponentLink3URL: http://cds.linear.com/docs/en/packaging/DFN_16_05-08-1707.pdf
footprint LT-DHD16_V (SON, 16-Leads, Body 5x4mm, Pitch 0.5mm, Thermal Pad 4.34x2.44mm)
pins: 1 OUT B (out) "Comparator B Output. Output can source up to 40mA and sink 5mA.", 2 OUT A (out) "Comparator A Output. Output can source up to 40mA and sink 5mA.", 3 V+ (power) "Positive Supply.", 4 IN A- (in) "Inverting Input of Comparator A. Input common mode range from V- to V+ - 1.3V. Input current typically 10pA at 25degreesC.", 5 IN A+ (in) "Noninverting Input of Comparator A. Input common mode range from V- to V+ - 1.3V. Input current typically 10pA at 25degreesC.", 6 IN B- (in) "Inverting Input of Comparator B. Input common mode range from V- to V+ - 1.3V. Input current typically 10pA at 25degreesC.", 7 IN B+ (in) "Noninverting Input of Comparator B. Input common mode range from V- to V+ - 1.3V. Input current typically 10pA at 25degreesC.", 8 REF (out) "Reference Output. With respect to V-. Can source up to 200uA and sink 15uA at 25degreesC. Drive 0.01uF bypass capacitor without oscillation.", 9 V- (power) "Negative Supply. Connect to ground for single supply operation.", 10 IN C- (in) "Inverting Input of Comparator C. Input common mode range from V- to V+ - 1.3V. Input current typically 10pA at 25degreesC.", 11 IN C+ (in) "Noninverting Input of Comparator C. Input common mode range from V- to V+ - 1.3V. Input current typically 10pA at 25degreesC.", 12 IN D- (in) "Inverting Input of Comparator D. Input common mode range from V- to V+ - 1.3V. Input current typically 10pA at 25degreesC.", 13 IN D+ (in) "Noninverting Input of Comparator D. Input common mode range from V- to V+ - 1.3V. Input current typically 10pA at 25degreesC.", 14 GND (power) "Ground. Connect to V- for single supply operation.", 15 OUT D (out) "Comparator D Output. Output can source up to 40mA and sink 5mA.", 16 OUT C (out) "Comparator C Output. Output can source up to 40mA and sink 5mA.", 17 EP "This pin is internally connected to V-. Connection is optional, but will improve thermal dissipation."

## LTC1443CN
designator U?
Ultralow Power Comparator with Reference, 4 Channels, 2 to 11 V, 0 to +70 degC, 16-pin PDIP (N16); Generic Part Number: LTC1443; Manufacturer: Linear Technology; PartNumber: LTC1443CN; Channels (#): 4; Supply Current (uA) Guaranteed: 8.5; Supply Current (uA) Typical: 5.5; Supply Voltage Range: 2 to 11 V; Vos (mV) Typical: 3; Vs Max (V): 11; Vs Min (V): 2; DatasheetVersion: Rev E; PackageReference: N16; PackageDescription: 16-Pin PDIP, Body 19.305 x 6.35 mm, Pitch 2.54 mm; Supplier 1: Digi-Key; Supplier Part Number 1: LTC1443CN-ND; Features: Reference, Comparator; Prop Delay (us): 4; RoHS: N; Mounting Technology: Through Hole; ComponentLink1Description: Manufacturer URL; ComponentLink1URL: http://www.linear.com/; ComponentLink2Description: Datasheet; ComponentLink2URL: http://cds.linear.com/docs/en/datasheet/144345fe.pdf; ComponentLink3Description: Package Specification; ComponentLink3URL: http://cds.linear.com/docs/en/packaging/05081510_I_N16.pdf
footprint LT-N16 (DIP, 16-Leads, Body 19.558x6.477mm, Pitch 2.54mm)
part A pins: 2 OUT A (out) "Comparator A Output. Output can source up to 40mA and sink 5mA.", 4 IN A- (in) "Inverting Input of Comparator A. Input common mode range from V- to V+ - 1.3V. Input current typically 10pA at 25degreesC.", 5 IN A+ (in) "Noninverting Input of Comparator A. Input common mode range from V- to V+ - 1.3V. Input current typically 10pA at 25degreesC."
part B pins: 1 OUT B (out) "Comparator B Output. Output can source up to 40mA and sink 5mA.", 6 IN B- (in) "Inverting Input of Comparator B. Input common mode range from V- to V+ - 1.3V. Input current typically 10pA at 25degreesC.", 7 IN B+ (in) "Noninverting Input of Comparator B. Input common mode range from V- to V+ - 1.3V. Input current typically 10pA at 25degreesC."
part C pins: 10 IN C- (in) "Inverting Input of Comparator C. Input common mode range from V- to V+ - 1.3V. Input current typically 10pA at 25degreesC.", 11 IN C+ (in) "Noninverting Input of Comparator C. Input common mode range from V- to V+ - 1.3V. Input current typically 10pA at 25degreesC.", 16 OUT C (out) "Comparator C Output. Output can source up to 40mA and sink 5mA."
part D pins: 12 IN D- (in) "Inverting Input of Comparator D. Input common mode range from V- to V+ - 1.3V. Input current typically 10pA at 25degreesC.", 13 IN D+ (in) "Noninverting Input of Comparator D. Input common mode range from V- to V+ - 1.3V. Input current typically 10pA at 25degreesC.", 15 OUT D (out) "Comparator D Output. Output can source up to 40mA and sink 5mA."
part E pins: 3 V+ (power) "Positive Supply.", 8 REF (out) "Reference Output. With respect to V-. Can source up to 200uA and sink 15uA at 25degreesC. Drive 0.01uF bypass capacitor without oscillation.", 9 V- (power) "Negative Supply. Connect to ground for single supply operation on LTC1443.", 14 GND (power) "LTC1443 Ground. Connect to V- for single supply operation."

## LTC1443CN#PBF
designator U?
Ultralow Power Comparator with Reference, 4 Channels, 2 to 11 V, 0 to +70 degC, 16-pin PDIP (N16); Generic Part Number: LTC1443; Manufacturer: Linear Technology; PartNumber: LTC1443CN#PBF; Channels (#): 4; Supply Current (uA) Guaranteed: 8.5; Supply Current (uA) Typical: 5.5; Supply Voltage Range: 2 to 11 V; Vos (mV) Typical: 3; Vs Max (V): 11; Vs Min (V): 2; DatasheetVersion: Rev E; PackageReference: N16; PackageDescription: 16-Pin PDIP, Body 19.305 x 6.35 mm, Pitch 2.54 mm; Supplier 1: Digi-Key; Supplier Part Number 1: LTC1443CN#PBF-ND; Features: Reference, Comparator; Prop Delay (us): 4; RoHS: Y; Mounting Technology: Through Hole; ComponentLink1Description: Manufacturer URL; ComponentLink1URL: http://www.linear.com/; ComponentLink2Description: Datasheet; ComponentLink2URL: http://cds.linear.com/docs/en/datasheet/144345fe.pdf; ComponentLink3Description: Package Specification; ComponentLink3URL: http://cds.linear.com/docs/en/packaging/05081510_I_N16.pdf
footprint LT-N16 (DIP, 16-Leads, Body 19.558x6.477mm, Pitch 2.54mm)
part A pins: 2 OUT A (out) "Comparator A Output. Output can source up to 40mA and sink 5mA.", 4 IN A- (in) "Inverting Input of Comparator A. Input common mode range from V- to V+ - 1.3V. Input current typically 10pA at 25degreesC.", 5 IN A+ (in) "Noninverting Input of Comparator A. Input common mode range from V- to V+ - 1.3V. Input current typically 10pA at 25degreesC."
part B pins: 1 OUT B (out) "Comparator B Output. Output can source up to 40mA and sink 5mA.", 6 IN B- (in) "Inverting Input of Comparator B. Input common mode range from V- to V+ - 1.3V. Input current typically 10pA at 25degreesC.", 7 IN B+ (in) "Noninverting Input of Comparator B. Input common mode range from V- to V+ - 1.3V. Input current typically 10pA at 25degreesC."
part C pins: 10 IN C- (in) "Inverting Input of Comparator C. Input common mode range from V- to V+ - 1.3V. Input current typically 10pA at 25degreesC.", 11 IN C+ (in) "Noninverting Input of Comparator C. Input common mode range from V- to V+ - 1.3V. Input current typically 10pA at 25degreesC.", 16 OUT C (out) "Comparator C Output. Output can source up to 40mA and sink 5mA."
part D pins: 12 IN D- (in) "Inverting Input of Comparator D. Input common mode range from V- to V+ - 1.3V. Input current typically 10pA at 25degreesC.", 13 IN D+ (in) "Noninverting Input of Comparator D. Input common mode range from V- to V+ - 1.3V. Input current typically 10pA at 25degreesC.", 15 OUT D (out) "Comparator D Output. Output can source up to 40mA and sink 5mA."
part E pins: 3 V+ (power) "Positive Supply.", 8 REF (out) "Reference Output. With respect to V-. Can source up to 200uA and sink 15uA at 25degreesC. Drive 0.01uF bypass capacitor without oscillation.", 9 V- (power) "Negative Supply. Connect to ground for single supply operation on LTC1443.", 14 GND (power) "LTC1443 Ground. Connect to V- for single supply operation."